# Altium footprint library SCMLI_V3.PcbLib: 3 footprints
Each footprint in its own frame and in the unit in brackets; x right, y up, seen from the top. Pads: shape width x height; smd on the part's side, far side on the other; paste and mask are expansions set on the pad; w line width, h text height; cw(c..) or ccw(c..) is an arc to the next point about the centre after c.
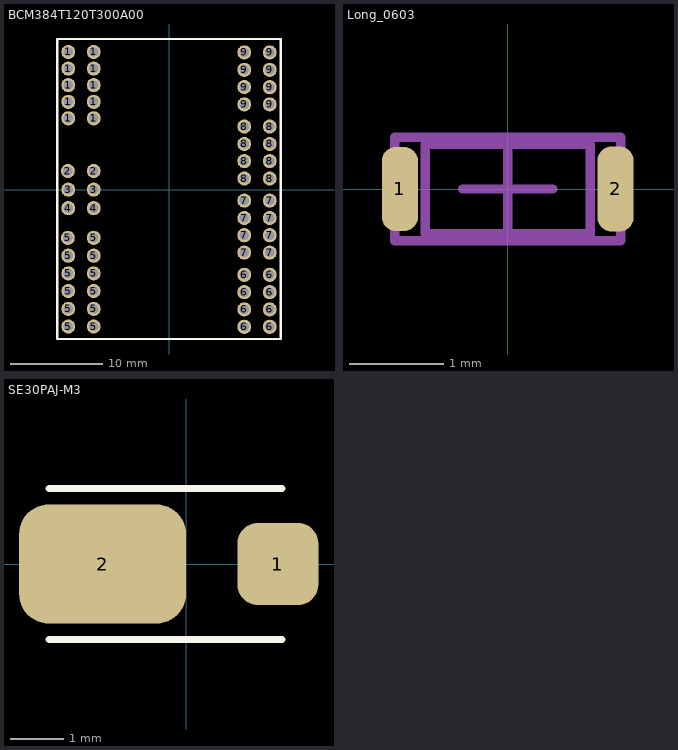
[diagram p0: the footprints below, top view; thin cyan lines are the x and y axes]

## BCM384T120T300A00 [mil] "Vicor 12V 300W DCDC"
pads (60):
  oval 59x60 hole 39: 1(-428,303) 1(-428,373) 1(-428,444) 1(-428,514) 1(-428,585) 1(-320,303) 1(-320,373) 1(-320,444) 1(-320,514) 1(-320,585) 2(-430,79) 2(-320,79) 3(-428,0) 3(-320,0) 4(-428,-79) 4(-320,-79) 5(-430,-205) 5(-428,-582) 5(-428,-507) 5(-428,-431) 5(-428,-356) 5(-428,-281) 5(-320,-582) 5(-320,-507) 5(-320,-431) 5(-320,-356) 5(-320,-281) 5(-320,-205) 6(320,-583) 6(320,-509) 6(320,-436) 6(320,-362) 6(428,-583) 6(428,-509) 6(428,-436) 6(428,-362) 7(320,-268) 7(320,-194) 7(320,-121) 7(320,-47) 7(428,-268) 7(428,-194) 7(428,-121) 7(428,-47) 8(320,47) 8(320,121) 8(320,194) 8(320,268) 8(428,47) 8(428,121) 8(428,194) 8(428,268) 9(320,362) 9(320,436) 9(320,509) 9(320,583) 9(428,362) 9(428,435) 9(428,509) 9(428,583)
Top Overlay:
  lines w10: -475,-635 475,-635 475,640 -475,640 -475,-635

## Long_0603 [mil]
pads (2):
  rrect75% 15x35 smd: 1(-45,0)
  rrect75% 15x35.43 smd: 2(45,0)
Mechanical 13:
  lines w3.94: -34.45,-18.7 -34.45,18.7 34.45,18.7 34.45,-18.7 -34.45,-18.7
Mechanical 15:
  lines w3.94: -18.7,0 18.7,0 ; 0,-18.7 0,18.7 ; -47.24,-21.65 -47.24,21.65 47.24,21.65 47.24,-21.65 -47.24,-21.65
3D body: height 51.18, standoff 0, extent -34.45,-18.7 34.45,18.7

## SE30PAJ-M3 [mil] "600V diode"
pads (2):
  rrect50% 59x60 smd: 1(67,0)
  rrect50% 122x87 smd: 2(-61,0)
Top Overlay:
  lines w5: -100,-55 70,-55 ; -100,55 70,55